# Altium schematic symbol library IND-CONST.SchLib: 1 symbol
Pins are listed as number, name and electrical type; pins without a type are passive.

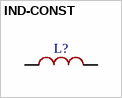
[diagram p0: symbol IND-CONST]

## IND-CONST
designator L?
footprint SND_0504
pins: 1, 2